# EAGLE library part MAX3485 (library EYR_CircuitosIntegrados)
MAX3485CSA+T Circuito integrado para interfaz RS-422/RS-485 3.3V Powered
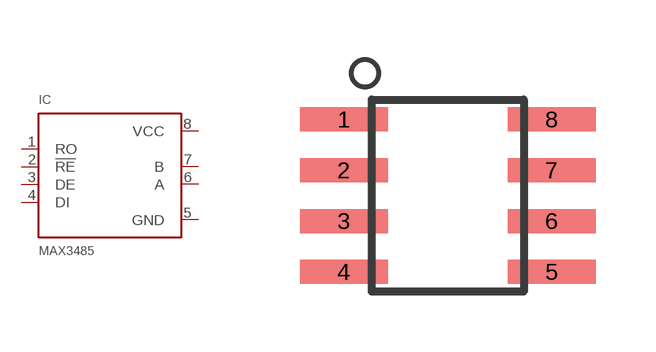
[diagram p12: symbol with the pads of SO-08; footprint SO-08]

Designator prefix IC

## MAX3485CSA+T  [SO-08]
1  RO  out
2  !RE  in
3  DE  in
4  DI  in
5  GND  pwr
6  A
7  B
8  VCC  pwr

## Footprint SO-08 (pad centres in mm)
Small Outline Narrow Plastic Gull Wing 150-mil body, package type SN
smd 2.2 x 0.6: 1 -2.6,1.905; 2 -2.6,0.635; 3 -2.6,-0.635; 4 -2.6,-1.905; 5 2.6,-1.905; 6 2.6,-0.635; 7 2.6,0.635; 8 2.6,1.905